# Altium integrated library NSC Switcher.IntLib: 889 symbols (part 19 of 23)
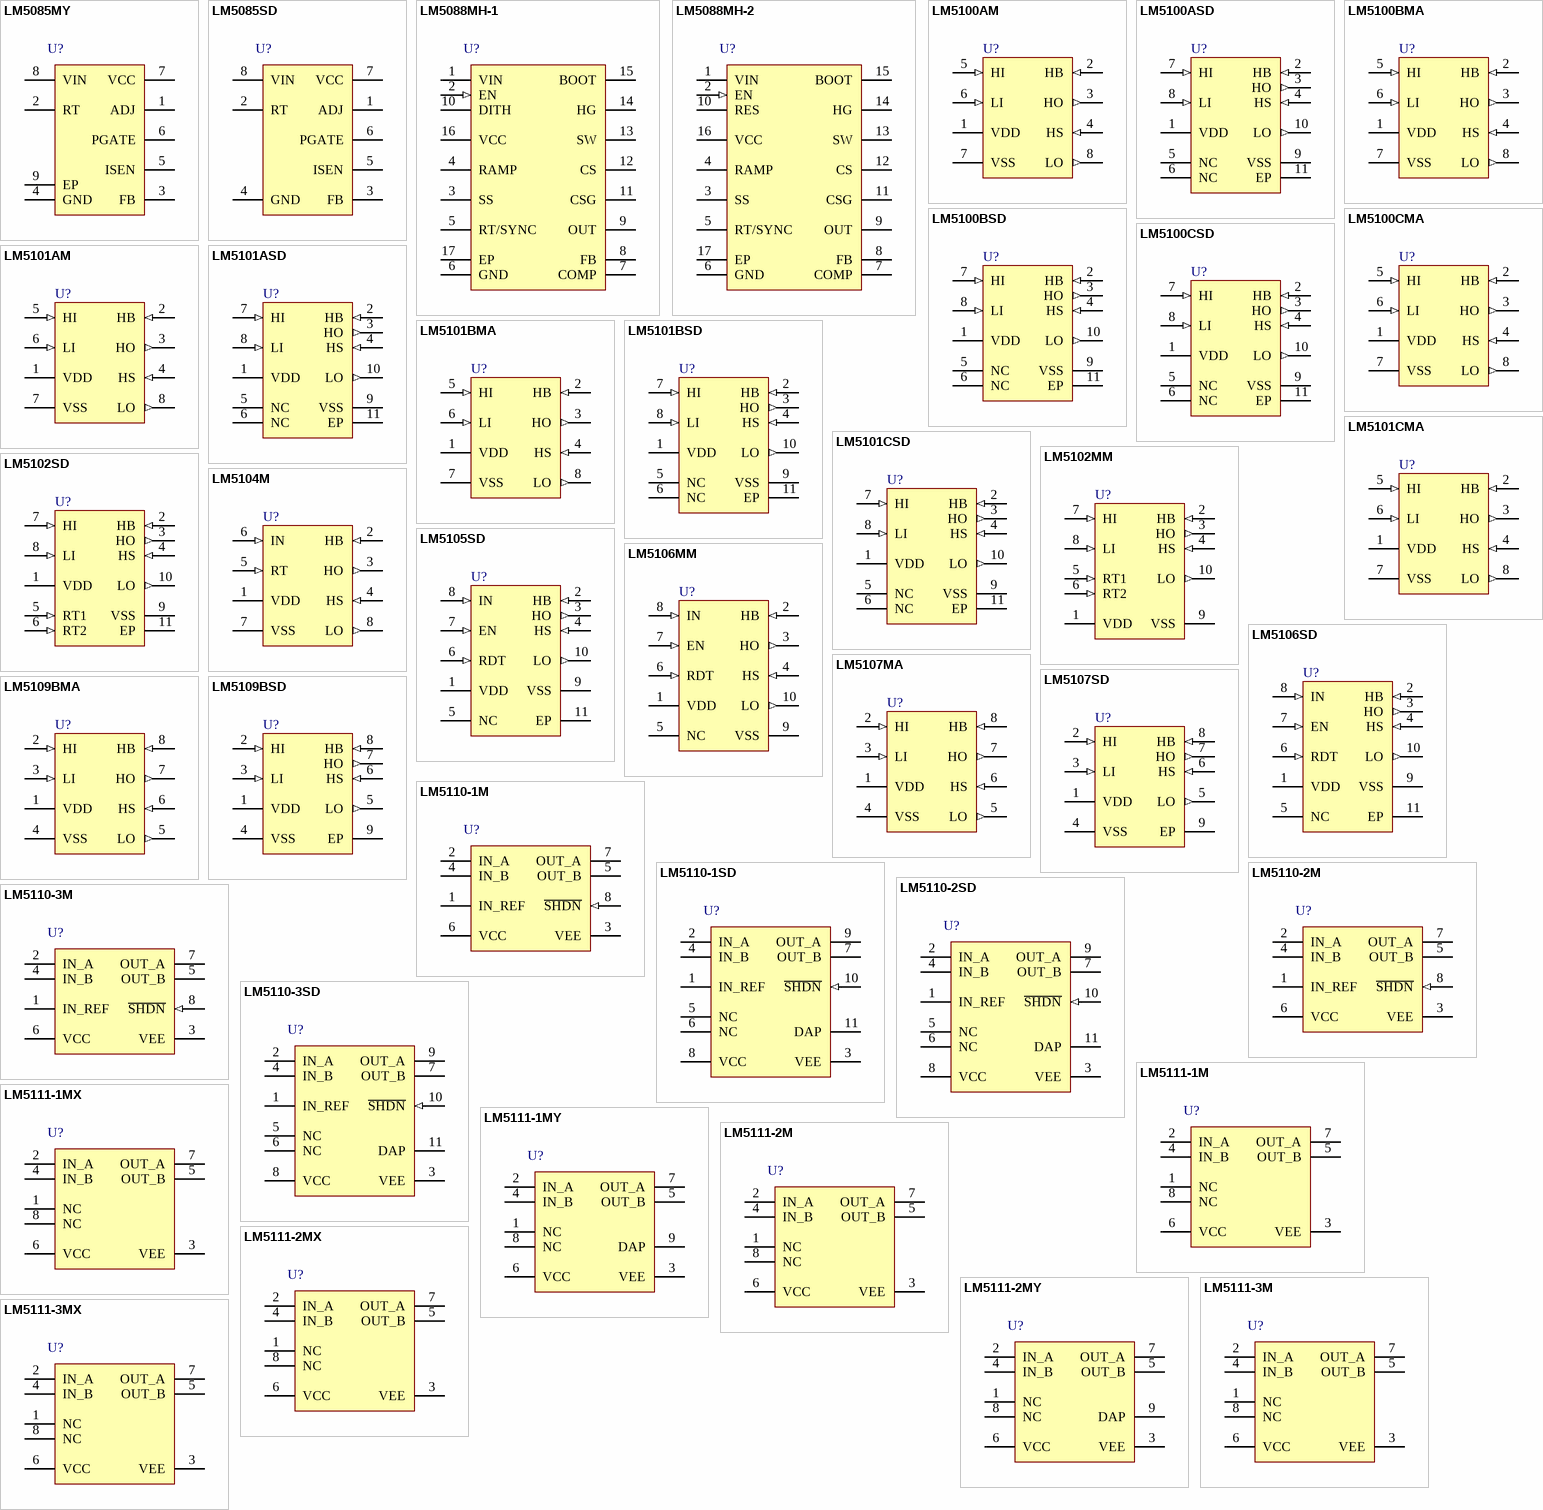
[diagram p45: symbols LM5085MY to LM5111-3MX]

## LM5106SD
designator U?
100V Half Bridge Gate Driver with Programmable Dead-Time; PartNumber: LM5106SD; Manufacturer: National Semiconductor; CompType: Switcher; PackageTopMarking: NS*UZXYTT*L5106SD; Published: 4-Dec-2008; DatasheetVersion: Jun-2006; PackageVersion: revA, May-2003; PackageReference: SDC10A; Publisher: Altium Limited; PackageDescription: LLP, Plastic, Dual, 4 x 4 x 0.8mm Body, 10 Lead, 0.8mm Pitch, No Pullback; RoHS: Y; PinCount: 10; DigiKeyPartNumber: LM5106SDCT-ND; ComponentLink1Description: LM5106 Datasheet; ComponentLink1URL: http://www.national.com/ds/LM/LM5106.pdf; ComponentLink2Description: LM5106 Web Page; ComponentLink2URL: http://www.national.com/pf/LM/LM5106.html; ComponentLink3Description: SDC10A Package Drawing; ComponentLink3URL: http://www.national.com/packaging/folders/sdc10a.html
footprint SDC10A (SON, 10-Leads, Body 4x4 mm, Pitch 0.8mm, NSC Recommended)
pins: 1 VDD (power), 2 HB (in), 3 HO (out), 4 HS (in), 5 NC, 6 RDT (in), 7 EN (in), 8 IN (in), 9 VSS (power), 10 LO (out), 11 EP (power)

## LM5107MA
designator U?
100V / 1.4A Peak Half Bridge Gate Driver; PartNumber: LM5107MA; Manufacturer: National Semiconductor; CompType: Switcher; PackageTopMarking: NSZXTT*L5107*MA; Published: 4-Dec-2008; DatasheetVersion: Mar-2005; PackageVersion: revL, Sep-2006; PackageReference: M08A; Publisher: Altium Limited; PackageDescription: SOIC Narrow, 4.9 x 3.9 x 1.45mm, 8 Lead, 1.27mm Pitch; RoHS: Y; PinCount: 8; DigiKeyPartNumber: LM5107MA-ND; Code_JEDEC: MS-012-AA; Code_IPC: SOIC127P600-8; ComponentLink1Description: LM5107 Datasheet; ComponentLink1URL: http://www.national.com/ds/LM/LM5107.pdf; ComponentLink2Description: LM5107 Web Page; ComponentLink2URL: http://www.national.com/pf/LM/LM5107.html; ComponentLink3Description: M08A Package Drawing; ComponentLink3URL: http://www.national.com/packaging/folders/m08a.html
footprint M08A_N (SOIC, 8-Leads, Body 4.9x3.9mm, Pitch 1.27mm, IPC Medium Density)
footprint M08A_L (SOIC, 8-Leads, Body 4.9x3.9mm, Pitch 1.27mm, IPC High Density)
footprint M08A_M (SOIC, 8-Leads, Body 4.9x3.9mm, Pitch 1.27mm, IPC Low Density)
pins: 1 VDD (power), 2 HI (in), 3 LI (in), 4 VSS (power), 5 LO (out), 6 HS (in), 7 HO (out), 8 HB (in)

## LM5107SD
designator U?
100V / 1.4A Peak Half Bridge Gate Driver; PartNumber: LM5107SD; Manufacturer: National Semiconductor; CompType: Switcher; PackageTopMarking: NS*UZXYTT*L5107SD; Published: 4-Dec-2008; DatasheetVersion: Mar-2005; PackageVersion: revA, Jun-2003; PackageReference: SDC08A; Publisher: Altium Limited; PackageDescription: LLP, Plastic, Dual, 4 x 4 x 0.8mm Body, 8 Lead, 0.8mm Pitch, No Pullback; RoHS: Y; PinCount: 8; DigiKeyPartNumber: LM5107SDCT-ND; ComponentLink1Description: LM5107 Datasheet; ComponentLink1URL: http://www.national.com/ds/LM/LM5107.pdf; ComponentLink2Description: LM5107 Web Page; ComponentLink2URL: http://www.national.com/pf/LM/LM5107.html; ComponentLink3Description: SDC08A Package Drawing; ComponentLink3URL: http://www.national.com/packaging/folders/sdc08a.html
footprint SDC08A (SON, 8-Leads, Body 4x4mm, Pitch 0.8mm, NSC Recommended)
pins: 1 VDD (power), 2 HI (in), 3 LI (in), 4 VSS (power), 5 LO (out), 6 HS (in), 7 HO (out), 8 HB (in), 9 EP (power)

## LM5109BMA
designator U?
High Voltage 1A Peak Half Bridge Gate Driver; PartNumber: LM5109BMA; Manufacturer: National Semiconductor; CompType: Switcher; PackageTopMarking: NSZXTT*L5109*BMA; Published: 4-Dec-2008; DatasheetVersion: Feb-2007; PackageVersion: revL, Sep-2006; PackageReference: M08A; Publisher: Altium Limited; PackageDescription: SOIC Narrow, 4.9 x 3.9 x 1.45mm, 8 Lead, 1.27mm Pitch; RoHS: Y; PinCount: 8; DigiKeyPartNumber: LM5109BMA-ND; Code_JEDEC: MS-012-AA; Code_IPC: SOIC127P600-8; ComponentLink1Description: LM5109B Datasheet; ComponentLink1URL: http://www.national.com/ds/LM/LM5109B.pdf; ComponentLink2Description: LM5109B Web Page; ComponentLink2URL: http://www.national.com/pf/LM/LM5109B.html; ComponentLink3Description: M08A Package Drawing; ComponentLink3URL: http://www.national.com/packaging/folders/m08a.html
footprint M08A_N (SOIC, 8-Leads, Body 4.9x3.9mm, Pitch 1.27mm, IPC Medium Density)
footprint M08A_L (SOIC, 8-Leads, Body 4.9x3.9mm, Pitch 1.27mm, IPC High Density)
footprint M08A_M (SOIC, 8-Leads, Body 4.9x3.9mm, Pitch 1.27mm, IPC Low Density)
pins: 1 VDD (power), 2 HI (in), 3 LI (in), 4 VSS (power), 5 LO (out), 6 HS (in), 7 HO (out), 8 HB (in)

## LM5109BSD
designator U?
High Voltage 1A Peak Half Bridge Gate Driver; PartNumber: LM5109BSD; Manufacturer: National Semiconductor; CompType: Switcher; PackageTopMarking: NS*UZXYTT*5109BSD; Published: 4-Dec-2008; DatasheetVersion: Feb-2007; PackageVersion: revA, Jun-2003; PackageReference: SDC08A; Publisher: Altium Limited; PackageDescription: LLP, Plastic, Dual, 4 x 4 x 0.8mm Body, 8 Lead, 0.8mm Pitch, No Pullback; RoHS: Y; PinCount: 8; DigiKeyPartNumber: LM5109BSDCT-ND; ComponentLink1Description: LM5109B Datasheet; ComponentLink1URL: http://www.national.com/ds/LM/LM5109B.pdf; ComponentLink2Description: LM5109B Web Page; ComponentLink2URL: http://www.national.com/pf/LM/LM5109B.html; ComponentLink3Description: SDC08A Package Drawing; ComponentLink3URL: http://www.national.com/packaging/folders/sdc08a.html
footprint SDC08A (SON, 8-Leads, Body 4x4mm, Pitch 0.8mm, NSC Recommended)
pins: 1 VDD (power), 2 HI (in), 3 LI (in), 4 VSS (power), 5 LO (out), 6 HS (in), 7 HO (out), 8 HB (in), 9 EP (power)

## LM5110-1M
designator U?
Dual 5A Compound Gate Driver with Negative Output Voltage Capability; PartNumber: LM5110-1M; Manufacturer: National Semiconductor; CompType: Switcher; PackageTopMarking: NSZXTT*5110*-1M; PowerWise: N; Published: 4-Dec-2008; DatasheetVersion: Oct-2003; PackageVersion: revL, Sep-2006; PackageReference: M08A; Publisher: Altium Limited; PackageDescription: SOIC Narrow, 4.9 x 3.9 x 1.45mm, 8 Lead, 1.27mm Pitch; RoHS: Y; PinCount: 8; DigiKeyPartNumber: LM5110-1M-ND; Code_JEDEC: MS-012-AA; Code_IPC: SOIC127P600-8; ComponentLink1Description: LM5110 Datasheet; ComponentLink1URL: http://www.national.com/ds/LM/LM5110.pdf; ComponentLink2Description: LM5110 Web Page; ComponentLink2URL: http://www.national.com/pf/LM/LM5110.html; ComponentLink3Description: M08A Package Drawing; ComponentLink3URL: http://www.national.com/packaging/folders/m08a.html
footprint M08A_N (SOIC, 8-Leads, Body 4.9x3.9mm, Pitch 1.27mm, IPC Medium Density)
footprint M08A_L (SOIC, 8-Leads, Body 4.9x3.9mm, Pitch 1.27mm, IPC High Density)
footprint M08A_M (SOIC, 8-Leads, Body 4.9x3.9mm, Pitch 1.27mm, IPC Low Density)
pins: 1 IN_REF (power), 2 IN_A (power), 3 VEE (power), 4 IN_B (power), 5 OUT_B (power), 6 VCC (power), 7 OUT_A (power), 8 ~{SHDN} (in)

## LM5110-1SD
designator U?
Dual 5A Compound Gate Driver with Negative Output Voltage Capability; PartNumber: LM5110-1SD; Manufacturer: National Semiconductor; CompType: Switcher; PackageTopMarking: NS*UZXYTT*5110-1; PowerWise: N; Published: 4-Dec-2008; DatasheetVersion: Oct-2003; PackageVersion: revA, May-2003; PackageReference: SDC10A; Publisher: Altium Limited; PackageDescription: LLP, Plastic, Dual, 4 x 4 x 0.8mm Body, 10 Lead, 0.8mm Pitch, No Pullback; RoHS: O; PinCount: 10; DigiKeyPartNumber: LM5110-1SDCT-ND; ComponentLink1Description: LM5110 Datasheet; ComponentLink1URL: http://www.national.com/ds/LM/LM5110.pdf; ComponentLink2Description: LM5110 Web Page; ComponentLink2URL: http://www.national.com/pf/LM/LM5110.html; ComponentLink3Description: SDC10A Package Drawing; ComponentLink3URL: http://www.national.com/packaging/folders/sdc10a.html
footprint SDC10A (SON, 10-Leads, Body 4x4 mm, Pitch 0.8mm, NSC Recommended)
pins: 1 IN_REF (power), 2 IN_A (power), 3 VEE (power), 4 IN_B (power), 5 NC, 6 NC, 7 OUT_B (power), 8 VCC (power), 9 OUT_A (power), 10 ~{SHDN} (in), 11 DAP (power)

## LM5110-2M
designator U?
Dual 5A Compound Gate Driver with Negative Output Voltage Capability; PartNumber: LM5110-2M; Manufacturer: National Semiconductor; CompType: Switcher; PackageTopMarking: NSZXTT*5110*-2M; PowerWise: N; Published: 4-Dec-2008; DatasheetVersion: Oct-2003; PackageVersion: revL, Sep-2006; PackageReference: M08A; Publisher: Altium Limited; PackageDescription: SOIC Narrow, 4.9 x 3.9 x 1.45mm, 8 Lead, 1.27mm Pitch; RoHS: O; PinCount: 8; DigiKeyPartNumber: LM5110-2M-ND; Code_JEDEC: MS-012-AA; Code_IPC: SOIC127P600-8; ComponentLink1Description: LM5110 Datasheet; ComponentLink1URL: http://www.national.com/ds/LM/LM5110.pdf; ComponentLink2Description: LM5110 Web Page; ComponentLink2URL: http://www.national.com/pf/LM/LM5110.html; ComponentLink3Description: M08A Package Drawing; ComponentLink3URL: http://www.national.com/packaging/folders/m08a.html
footprint M08A_N (SOIC, 8-Leads, Body 4.9x3.9mm, Pitch 1.27mm, IPC Medium Density)
footprint M08A_L (SOIC, 8-Leads, Body 4.9x3.9mm, Pitch 1.27mm, IPC High Density)
footprint M08A_M (SOIC, 8-Leads, Body 4.9x3.9mm, Pitch 1.27mm, IPC Low Density)
pins: 1 IN_REF (power), 2 IN_A (power), 3 VEE (power), 4 IN_B (power), 5 OUT_B (power), 6 VCC (power), 7 OUT_A (power), 8 ~{SHDN} (in)

## LM5110-2SD
designator U?
Dual 5A Compound Gate Driver with Negative Output Voltage Capability; PartNumber: LM5110-2SD; Manufacturer: National Semiconductor; CompType: Switcher; PackageTopMarking: NS*UZXYTT*5110-2; PowerWise: N; Published: 4-Dec-2008; DatasheetVersion: Oct-2003; PackageVersion: revA, May-2003; PackageReference: SDC10A; Publisher: Altium Limited; PackageDescription: LLP, Plastic, Dual, 4 x 4 x 0.8mm Body, 10 Lead, 0.8mm Pitch, No Pullback; RoHS: Y; PinCount: 10; DigiKeyPartNumber: LM5110-2SDCT-ND; ComponentLink1Description: LM5110 Datasheet; ComponentLink1URL: http://www.national.com/ds/LM/LM5110.pdf; ComponentLink2Description: LM5110 Web Page; ComponentLink2URL: http://www.national.com/pf/LM/LM5110.html; ComponentLink3Description: SDC10A Package Drawing; ComponentLink3URL: http://www.national.com/packaging/folders/sdc10a.html
footprint SDC10A (SON, 10-Leads, Body 4x4 mm, Pitch 0.8mm, NSC Recommended)
pins: 1 IN_REF (power), 2 IN_A (power), 3 VEE (power), 4 IN_B (power), 5 NC, 6 NC, 7 OUT_B (power), 8 VCC (power), 9 OUT_A (power), 10 ~{SHDN} (in), 11 DAP (power)

## LM5110-3M
designator U?
Dual 5A Compound Gate Driver with Negative Output Voltage Capability; PartNumber: LM5110-3M; Manufacturer: National Semiconductor; CompType: Switcher; PackageTopMarking: NSZXTT*5110*-3M; PowerWise: N; Published: 4-Dec-2008; DatasheetVersion: Oct-2003; PackageVersion: revL, Sep-2006; PackageReference: M08A; Publisher: Altium Limited; PackageDescription: SOIC Narrow, 4.9 x 3.9 x 1.45mm, 8 Lead, 1.27mm Pitch; RoHS: Y; PinCount: 8; DigiKeyPartNumber: LM5110-3M-ND; Code_JEDEC: MS-012-AA; Code_IPC: SOIC127P600-8; ComponentLink1Description: LM5110 Datasheet; ComponentLink1URL: http://www.national.com/ds/LM/LM5110.pdf; ComponentLink2Description: LM5110 Web Page; ComponentLink2URL: http://www.national.com/pf/LM/LM5110.html; ComponentLink3Description: M08A Package Drawing; ComponentLink3URL: http://www.national.com/packaging/folders/m08a.html
footprint M08A_N (SOIC, 8-Leads, Body 4.9x3.9mm, Pitch 1.27mm, IPC Medium Density)
footprint M08A_L (SOIC, 8-Leads, Body 4.9x3.9mm, Pitch 1.27mm, IPC High Density)
footprint M08A_M (SOIC, 8-Leads, Body 4.9x3.9mm, Pitch 1.27mm, IPC Low Density)
pins: 1 IN_REF (power), 2 IN_A (power), 3 VEE (power), 4 IN_B (power), 5 OUT_B (power), 6 VCC (power), 7 OUT_A (power), 8 ~{SHDN} (in)

## LM5110-3SD
designator U?
Dual 5A Compound Gate Driver with Negative Output Voltage Capability; PartNumber: LM5110-3SD; Manufacturer: National Semiconductor; CompType: Switcher; PackageTopMarking: NS*UZXYTT*5110-3; PowerWise: N; Published: 4-Dec-2008; DatasheetVersion: Oct-2003; PackageVersion: revA, May-2003; PackageReference: SDC10A; Publisher: Altium Limited; PackageDescription: LLP, Plastic, Dual, 4 x 4 x 0.8mm Body, 10 Lead, 0.8mm Pitch, No Pullback; RoHS: Y; PinCount: 10; DigiKeyPartNumber: LM5110-3SDCT-ND; ComponentLink1Description: LM5110 Datasheet; ComponentLink1URL: http://www.national.com/ds/LM/LM5110.pdf; ComponentLink2Description: LM5110 Web Page; ComponentLink2URL: http://www.national.com/pf/LM/LM5110.html; ComponentLink3Description: SDC10A Package Drawing; ComponentLink3URL: http://www.national.com/packaging/folders/sdc10a.html
footprint SDC10A (SON, 10-Leads, Body 4x4 mm, Pitch 0.8mm, NSC Recommended)
pins: 1 IN_REF (power), 2 IN_A (power), 3 VEE (power), 4 IN_B (power), 5 NC, 6 NC, 7 OUT_B (power), 8 VCC (power), 9 OUT_A (power), 10 ~{SHDN} (in), 11 DAP (power)

## LM5111-1M
designator U?
Dual 5A Compound Gate Driver; PartNumber: LM5111-1M; Manufacturer: National Semiconductor; CompType: Switcher; PackageTopMarking: NSXYTT*5111*-1M; PowerWise: N; Published: 4-Dec-2008; DatasheetVersion: Nov-2007; PackageVersion: revL, Sep-2006; PackageReference: M08A; Publisher: Altium Limited; PackageDescription: SOIC Narrow, 4.9 x 3.9 x 1.45mm, 8 Lead, 1.27mm Pitch; RoHS: Y; PinCount: 8; DigiKeyPartNumber: LM5111-1M-ND; Code_JEDEC: MS-012-AA; Code_IPC: SOIC127P600-8; ComponentLink1Description: LM5111 Datasheet; ComponentLink1URL: http://www.national.com/ds/LM/LM5111.pdf; ComponentLink2Description: LM5111 Web Page; ComponentLink2URL: http://www.national.com/pf/LM/LM5111.html; ComponentLink3Description: M08A Package Drawing; ComponentLink3URL: http://www.national.com/packaging/folders/m08a.html
footprint M08A_N (SOIC, 8-Leads, Body 4.9x3.9mm, Pitch 1.27mm, IPC Medium Density)
footprint M08A_L (SOIC, 8-Leads, Body 4.9x3.9mm, Pitch 1.27mm, IPC High Density)
footprint M08A_M (SOIC, 8-Leads, Body 4.9x3.9mm, Pitch 1.27mm, IPC Low Density)
pins: 1 NC, 2 IN_A (power), 3 VEE (power), 4 IN_B (power), 5 OUT_B (power), 6 VCC (power), 7 OUT_A (power), 8 NC

## LM5111-1MX
designator U?
Dual 5A Compound Gate Driver; PartNumber: LM5111-1MX; Manufacturer: National Semiconductor; CompType: Switcher; PackageTopMarking: NSZXTT*5111*-1M; PowerWise: N; Published: 4-Dec-2008; DatasheetVersion: Nov-2007; PackageVersion: revL, Sep-2006; PackageReference: M08A; Publisher: Altium Limited; PackageDescription: SOIC Narrow, 4.9 x 3.9 x 1.45mm, 8 Lead, 1.27mm Pitch; RoHS: O; PinCount: 8; DigiKeyPartNumber: LM5111-1MX-ND; Code_JEDEC: MS-012-AA; Code_IPC: SOIC127P600-8; ComponentLink1Description: LM5111 Datasheet; ComponentLink1URL: http://www.national.com/ds/LM/LM5111.pdf; ComponentLink2Description: LM5111 Web Page; ComponentLink2URL: http://www.national.com/pf/LM/LM5111.html; ComponentLink3Description: M08A Package Drawing; ComponentLink3URL: http://www.national.com/packaging/folders/m08a.html
footprint M08A_N (SOIC, 8-Leads, Body 4.9x3.9mm, Pitch 1.27mm, IPC Medium Density)
footprint M08A_L (SOIC, 8-Leads, Body 4.9x3.9mm, Pitch 1.27mm, IPC High Density)
footprint M08A_M (SOIC, 8-Leads, Body 4.9x3.9mm, Pitch 1.27mm, IPC Low Density)
pins: 1 NC, 2 IN_A (power), 3 VEE (power), 4 IN_B (power), 5 OUT_B (power), 6 VCC (power), 7 OUT_A (power), 8 NC

## LM5111-1MY
designator U?
Dual 5A Compound Gate Driver; PartNumber: LM5111-1MY; Manufacturer: National Semiconductor; CompType: Switcher; PackageTopMarking: ZXTT*SJKB; PowerWise: N; Published: 4-Dec-2008; DatasheetVersion: Nov-2007; PackageVersion: revA, Nov-2003; PackageReference: MUY08A; Publisher: Altium Limited; PackageDescription: Molded Mini-SO, Exposed Pad, .118 x .118 x .034in Body, 8 Lead, .0256in Pitch; RoHS: O; PinCount: 8; DigiKeyPartNumber: LM5111-1MYCT-ND; Code_JEDEC: MO-187-AA; ComponentLink1Description: LM5111 Datasheet; ComponentLink1URL: http://www.national.com/ds/LM/LM5111.pdf; ComponentLink2Description: LM5111 Web Page; ComponentLink2URL: http://www.national.com/pf/LM/LM5111.html; ComponentLink3Description: MUY08A Package Drawing; ComponentLink3URL: http://www.national.com/packaging/folders/muy08a.html
footprint MUY08A_N (TSOP, 8-Leads, Body 3x3mm, Pitch 0.65mm, Exposed Pad, IPC Medium Density)
footprint MUY08A_L (TSOP, 8-Leads, Body 3x3mm, Pitch 0.65mm, Exposed Pad, IPC High Density)
footprint MUY08A_M (TSOP, 8-Leads, Body 3x3mm, Pitch 0.65mm, Exposed Pad, IPC Low Density)
pins: 1 NC, 2 IN_A (power), 3 VEE (power), 4 IN_B (power), 5 OUT_B (power), 6 VCC (power), 7 OUT_A (power), 8 NC, 9 DAP (power)

## LM5111-2M
designator U?
Dual 5A Compound Gate Driver; PartNumber: LM5111-2M; Manufacturer: National Semiconductor; CompType: Switcher; PackageTopMarking: NSXYTT*5111*-2M; PowerWise: N; Published: 4-Dec-2008; DatasheetVersion: Nov-2007; PackageVersion: revL, Sep-2006; PackageReference: M08A; Publisher: Altium Limited; PackageDescription: SOIC Narrow, 4.9 x 3.9 x 1.45mm, 8 Lead, 1.27mm Pitch; RoHS: O; PinCount: 8; DigiKeyPartNumber: LM5111-2M-ND; Code_JEDEC: MS-012-AA; Code_IPC: SOIC127P600-8; ComponentLink1Description: LM5111 Datasheet; ComponentLink1URL: http://www.national.com/ds/LM/LM5111.pdf; ComponentLink2Description: LM5111 Web Page; ComponentLink2URL: http://www.national.com/pf/LM/LM5111.html; ComponentLink3Description: M08A Package Drawing; ComponentLink3URL: http://www.national.com/packaging/folders/m08a.html
footprint M08A_N (SOIC, 8-Leads, Body 4.9x3.9mm, Pitch 1.27mm, IPC Medium Density)
footprint M08A_L (SOIC, 8-Leads, Body 4.9x3.9mm, Pitch 1.27mm, IPC High Density)
footprint M08A_M (SOIC, 8-Leads, Body 4.9x3.9mm, Pitch 1.27mm, IPC Low Density)
pins: 1 NC, 2 IN_A (power), 3 VEE (power), 4 IN_B (power), 5 OUT_B (power), 6 VCC (power), 7 OUT_A (power), 8 NC

## LM5111-2MX
designator U?
Dual 5A Compound Gate Driver; PartNumber: LM5111-2MX; Manufacturer: National Semiconductor; CompType: Switcher; PackageTopMarking: NSZXTT*5111*-2M; PowerWise: N; Published: 4-Dec-2008; DatasheetVersion: Nov-2007; PackageVersion: revL, Sep-2006; PackageReference: M08A; Publisher: Altium Limited; PackageDescription: SOIC Narrow, 4.9 x 3.9 x 1.45mm, 8 Lead, 1.27mm Pitch; RoHS: O; PinCount: 8; DigiKeyPartNumber: LM5111-2MX-ND; Code_JEDEC: MS-012-AA; Code_IPC: SOIC127P600-8; ComponentLink1Description: LM5111 Datasheet; ComponentLink1URL: http://www.national.com/ds/LM/LM5111.pdf; ComponentLink2Description: LM5111 Web Page; ComponentLink2URL: http://www.national.com/pf/LM/LM5111.html; ComponentLink3Description: M08A Package Drawing; ComponentLink3URL: http://www.national.com/packaging/folders/m08a.html
footprint M08A_N (SOIC, 8-Leads, Body 4.9x3.9mm, Pitch 1.27mm, IPC Medium Density)
footprint M08A_L (SOIC, 8-Leads, Body 4.9x3.9mm, Pitch 1.27mm, IPC High Density)
footprint M08A_M (SOIC, 8-Leads, Body 4.9x3.9mm, Pitch 1.27mm, IPC Low Density)
pins: 1 NC, 2 IN_A (power), 3 VEE (power), 4 IN_B (power), 5 OUT_B (power), 6 VCC (power), 7 OUT_A (power), 8 NC

## LM5111-2MY
designator U?
Dual 5A Compound Gate Driver; PartNumber: LM5111-2MY; Manufacturer: National Semiconductor; CompType: Switcher; PackageTopMarking: ZXTT*SJLB; PowerWise: N; Published: 4-Dec-2008; DatasheetVersion: Nov-2007; PackageVersion: revA, Nov-2003; PackageReference: MUY08A; Publisher: Altium Limited; PackageDescription: Molded Mini-SO, Exposed Pad, .118 x .118 x .034in Body, 8 Lead, .0256in Pitch; RoHS: Y; PinCount: 8; DigiKeyPartNumber: LM5111-2MYCT-ND; Code_JEDEC: MO-187-AA; ComponentLink1Description: LM5111 Datasheet; ComponentLink1URL: http://www.national.com/ds/LM/LM5111.pdf; ComponentLink2Description: LM5111 Web Page; ComponentLink2URL: http://www.national.com/pf/LM/LM5111.html; ComponentLink3Description: MUY08A Package Drawing; ComponentLink3URL: http://www.national.com/packaging/folders/muy08a.html
footprint MUY08A_N (TSOP, 8-Leads, Body 3x3mm, Pitch 0.65mm, Exposed Pad, IPC Medium Density)
footprint MUY08A_L (TSOP, 8-Leads, Body 3x3mm, Pitch 0.65mm, Exposed Pad, IPC High Density)
footprint MUY08A_M (TSOP, 8-Leads, Body 3x3mm, Pitch 0.65mm, Exposed Pad, IPC Low Density)
pins: 1 NC, 2 IN_A (power), 3 VEE (power), 4 IN_B (power), 5 OUT_B (power), 6 VCC (power), 7 OUT_A (power), 8 NC, 9 DAP (power)

## LM5111-3M
designator U?
Dual 5A Compound Gate Driver; PartNumber: LM5111-3M; Manufacturer: National Semiconductor; CompType: Switcher; PackageTopMarking: NSXYTT*5111*-3M; PowerWise: N; Published: 4-Dec-2008; DatasheetVersion: Nov-2007; PackageVersion: revL, Sep-2006; PackageReference: M08A; Publisher: Altium Limited; PackageDescription: SOIC Narrow, 4.9 x 3.9 x 1.45mm, 8 Lead, 1.27mm Pitch; RoHS: Y; PinCount: 8; DigiKeyPartNumber: LM5111-3M-ND; Code_JEDEC: MS-012-AA; Code_IPC: SOIC127P600-8; ComponentLink1Description: LM5111 Datasheet; ComponentLink1URL: http://www.national.com/ds/LM/LM5111.pdf; ComponentLink2Description: LM5111 Web Page; ComponentLink2URL: http://www.national.com/pf/LM/LM5111.html; ComponentLink3Description: M08A Package Drawing; ComponentLink3URL: http://www.national.com/packaging/folders/m08a.html
footprint M08A_N (SOIC, 8-Leads, Body 4.9x3.9mm, Pitch 1.27mm, IPC Medium Density)
footprint M08A_L (SOIC, 8-Leads, Body 4.9x3.9mm, Pitch 1.27mm, IPC High Density)
footprint M08A_M (SOIC, 8-Leads, Body 4.9x3.9mm, Pitch 1.27mm, IPC Low Density)
pins: 1 NC, 2 IN_A (power), 3 VEE (power), 4 IN_B (power), 5 OUT_B (power), 6 VCC (power), 7 OUT_A (power), 8 NC

## LM5111-3MX
designator U?
Dual 5A Compound Gate Driver; PartNumber: LM5111-3MX; Manufacturer: National Semiconductor; CompType: Switcher; PackageTopMarking: NSZXTT*5111*-3M; PowerWise: N; Published: 4-Dec-2008; DatasheetVersion: Nov-2007; PackageVersion: revL, Sep-2006; PackageReference: M08A; Publisher: Altium Limited; PackageDescription: SOIC Narrow, 4.9 x 3.9 x 1.45mm, 8 Lead, 1.27mm Pitch; RoHS: O; PinCount: 8; DigiKeyPartNumber: LM5111-3MX-ND; Code_JEDEC: MS-012-AA; Code_IPC: SOIC127P600-8; ComponentLink1Description: LM5111 Datasheet; ComponentLink1URL: http://www.national.com/ds/LM/LM5111.pdf; ComponentLink2Description: LM5111 Web Page; ComponentLink2URL: http://www.national.com/pf/LM/LM5111.html; ComponentLink3Description: M08A Package Drawing; ComponentLink3URL: http://www.national.com/packaging/folders/m08a.html
footprint M08A_N (SOIC, 8-Leads, Body 4.9x3.9mm, Pitch 1.27mm, IPC Medium Density)
footprint M08A_L (SOIC, 8-Leads, Body 4.9x3.9mm, Pitch 1.27mm, IPC High Density)
footprint M08A_M (SOIC, 8-Leads, Body 4.9x3.9mm, Pitch 1.27mm, IPC Low Density)
pins: 1 NC, 2 IN_A (power), 3 VEE (power), 4 IN_B (power), 5 OUT_B (power), 6 VCC (power), 7 OUT_A (power), 8 NC

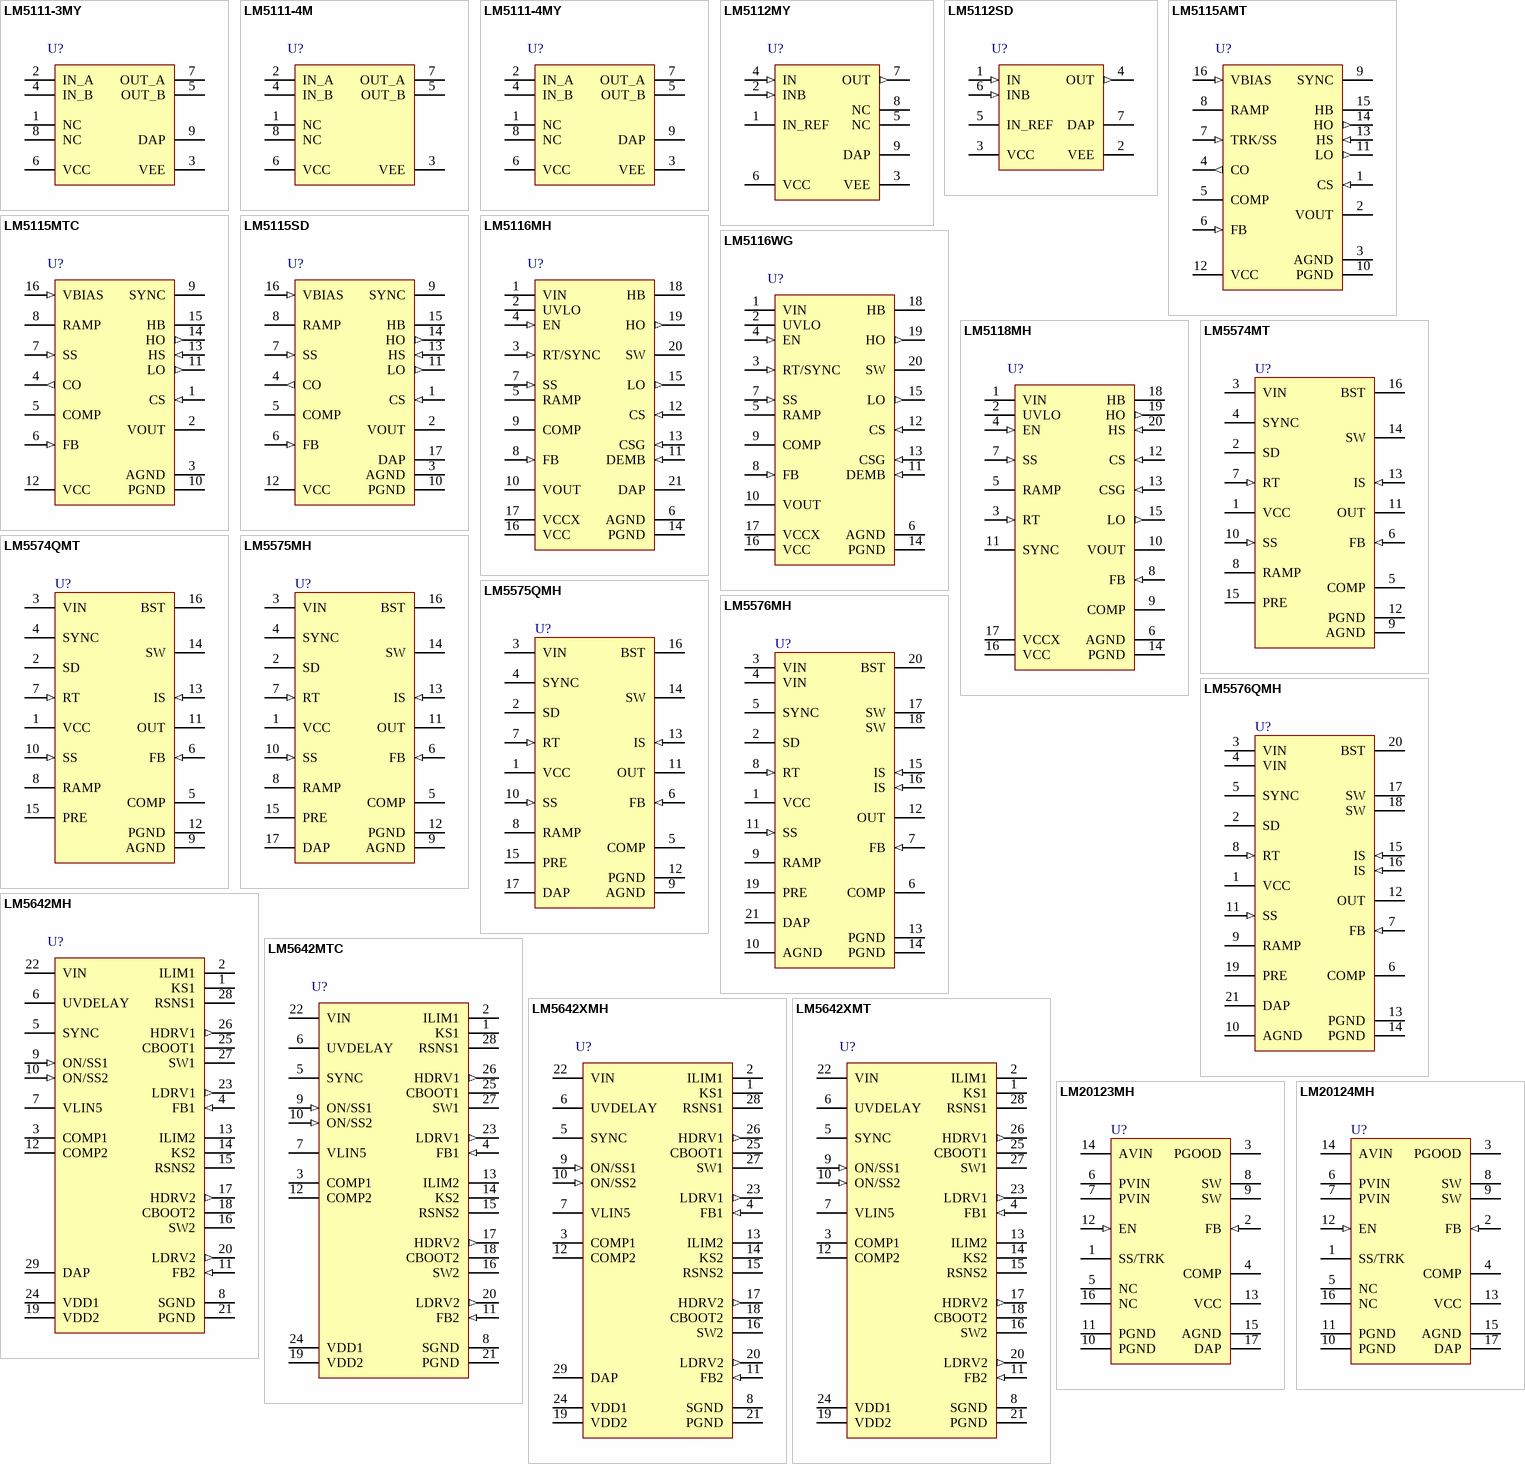
[diagram p22: symbols LM5111-3MY to LM20124MH]

## LM5111-3MY
designator U?
Dual 5A Compound Gate Driver; PartNumber: LM5111-3MY; Manufacturer: National Semiconductor; CompType: Switcher; PackageTopMarking: ZXTT*SJNB; PowerWise: N; Published: 4-Dec-2008; DatasheetVersion: Nov-2007; PackageVersion: revA, Nov-2003; PackageReference: MUY08A; Publisher: Altium Limited; PackageDescription: Molded Mini-SO, Exposed Pad, .118 x .118 x .034in Body, 8 Lead, .0256in Pitch; RoHS: Y; PinCount: 8; DigiKeyPartNumber: LM5111-3MYCT-ND; Code_JEDEC: MO-187-AA; ComponentLink1Description: LM5111 Datasheet; ComponentLink1URL: http://www.national.com/ds/LM/LM5111.pdf; ComponentLink2Description: LM5111 Web Page; ComponentLink2URL: http://www.national.com/pf/LM/LM5111.html; ComponentLink3Description: MUY08A Package Drawing; ComponentLink3URL: http://www.national.com/packaging/folders/muy08a.html
footprint MUY08A_N (TSOP, 8-Leads, Body 3x3mm, Pitch 0.65mm, Exposed Pad, IPC Medium Density)
footprint MUY08A_L (TSOP, 8-Leads, Body 3x3mm, Pitch 0.65mm, Exposed Pad, IPC High Density)
footprint MUY08A_M (TSOP, 8-Leads, Body 3x3mm, Pitch 0.65mm, Exposed Pad, IPC Low Density)
pins: 1 NC, 2 IN_A (power), 3 VEE (power), 4 IN_B (power), 5 OUT_B (power), 6 VCC (power), 7 OUT_A (power), 8 NC, 9 DAP (power)

## LM5111-4M
designator U?
Dual 5A Compound Gate Driver; PartNumber: LM5111-4M; Manufacturer: National Semiconductor; CompType: Switcher; PackageTopMarking: NSZXTT*5111*-4M; PowerWise: N; Published: 4-Dec-2008; DatasheetVersion: Nov-2007; PackageVersion: revL, Sep-2006; PackageReference: M08A; Publisher: Altium Limited; PackageDescription: SOIC Narrow, 4.9 x 3.9 x 1.45mm, 8 Lead, 1.27mm Pitch; RoHS: Y; PinCount: 8; DigiKeyPartNumber: LM5111-4M-ND; Code_JEDEC: MS-012-AA; Code_IPC: SOIC127P600-8; ComponentLink1Description: LM5111 Datasheet; ComponentLink1URL: http://www.national.com/ds/LM/LM5111.pdf; ComponentLink2Description: LM5111 Web Page; ComponentLink2URL: http://www.national.com/pf/LM/LM5111.html; ComponentLink3Description: M08A Package Drawing; ComponentLink3URL: http://www.national.com/packaging/folders/m08a.html
footprint M08A_N (SOIC, 8-Leads, Body 4.9x3.9mm, Pitch 1.27mm, IPC Medium Density)
footprint M08A_L (SOIC, 8-Leads, Body 4.9x3.9mm, Pitch 1.27mm, IPC High Density)
footprint M08A_M (SOIC, 8-Leads, Body 4.9x3.9mm, Pitch 1.27mm, IPC Low Density)
pins: 1 NC, 2 IN_A (power), 3 VEE (power), 4 IN_B (power), 5 OUT_B (power), 6 VCC (power), 7 OUT_A (power), 8 NC

## LM5111-4MY
designator U?
Dual 5A Compound Gate Driver; PartNumber: LM5111-4MY; Manufacturer: National Semiconductor; CompType: Switcher; PackageTopMarking: ZXTT*SSYB; PowerWise: N; Published: 4-Dec-2008; DatasheetVersion: Nov-2007; PackageVersion: revA, Nov-2003; PackageReference: MUY08A; Publisher: Altium Limited; PackageDescription: Molded Mini-SO, Exposed Pad, .118 x .118 x .034in Body, 8 Lead, .0256in Pitch; RoHS: Y; PinCount: 8; DigiKeyPartNumber: LM5111-4MYCT-ND; Code_JEDEC: MO-187-AA; ComponentLink1Description: LM5111 Datasheet; ComponentLink1URL: http://www.national.com/ds/LM/LM5111.pdf; ComponentLink2Description: LM5111 Web Page; ComponentLink2URL: http://www.national.com/pf/LM/LM5111.html; ComponentLink3Description: MUY08A Package Drawing; ComponentLink3URL: http://www.national.com/packaging/folders/muy08a.html
footprint MUY08A_N (TSOP, 8-Leads, Body 3x3mm, Pitch 0.65mm, Exposed Pad, IPC Medium Density)
footprint MUY08A_L (TSOP, 8-Leads, Body 3x3mm, Pitch 0.65mm, Exposed Pad, IPC High Density)
footprint MUY08A_M (TSOP, 8-Leads, Body 3x3mm, Pitch 0.65mm, Exposed Pad, IPC Low Density)
pins: 1 NC, 2 IN_A (power), 3 VEE (power), 4 IN_B (power), 5 OUT_B (power), 6 VCC (power), 7 OUT_A (power), 8 NC, 9 DAP (power)

## LM5112MY
designator U?
Tiny 7A MOSFET Gate Driver; PartNumber: LM5112MY; Manufacturer: National Semiconductor; CompType: Switcher; PackageTopMarking: ZXTT*SJJB; PowerWise: N; Published: 4-Dec-2008; DatasheetVersion: Apr-2006; PackageVersion: revA, Nov-2003; PackageReference: MUY08A; Publisher: Altium Limited; PackageDescription: Molded Mini-SO, Exposed Pad, .118 x .118 x .034in Body, 8 Lead, .0256in Pitch; RoHS: Y; PinCount: 8; DigiKeyPartNumber: LM5112MYCT-ND; Code_JEDEC: MO-187-AA; ComponentLink1Description: LM5112 Datasheet; ComponentLink1URL: http://www.national.com/ds/LM/LM5112.pdf; ComponentLink2Description: LM5112 Web Page; ComponentLink2URL: http://www.national.com/pf/LM/LM5112.html; ComponentLink3Description: MUY08A Package Drawing; ComponentLink3URL: http://www.national.com/packaging/folders/muy08a.html
footprint MUY08A_N (TSOP, 8-Leads, Body 3x3mm, Pitch 0.65mm, Exposed Pad, IPC Medium Density)
footprint MUY08A_L (TSOP, 8-Leads, Body 3x3mm, Pitch 0.65mm, Exposed Pad, IPC High Density)
footprint MUY08A_M (TSOP, 8-Leads, Body 3x3mm, Pitch 0.65mm, Exposed Pad, IPC Low Density)
pins: 1 IN_REF (power), 2 INB (in), 3 VEE (power), 4 IN (in), 5 NC, 6 VCC (power), 7 OUT (out), 8 NC, 9 DAP (power)

## LM5112SD
designator U?
Tiny 7A MOSFET Gate Driver; PartNumber: LM5112SD; Manufacturer: National Semiconductor; CompType: Switcher; PackageTopMarking: ZXYTT*L132B; PowerWise: N; Published: 4-Dec-2008; DatasheetVersion: Apr-2006; PackageVersion: revA, Jul-2003; PackageReference: SDE06A; Publisher: Altium Limited; PackageDescription: LLP, Plastic, Dual, 3 x 3 x 0.8mm Body, 6 Lead, 0.95mm Pitch, No Pullback; RoHS: Y; PinCount: 6; DigiKeyPartNumber: LM5112SDCT-ND; ComponentLink1Description: LM5112 Datasheet; ComponentLink1URL: http://www.national.com/ds/LM/LM5112.pdf; ComponentLink2Description: LM5112 Web Page; ComponentLink2URL: http://www.national.com/pf/LM/LM5112.html; ComponentLink3Description: SDE06A Package Drawing; ComponentLink3URL: http://www.national.com/packaging/folders/sde06a.html
footprint SDE06A_full (SON, 6-Leads, Body 3x3 mm, Pitch 0.95mm, Full Paste, NSC Recommended)
footprint SDE06A_quad (SON, 6-Leads, Body 3x3 mm, Pitch 0.95mm, Quad Paste, NSC Recommended)
pins: 1 IN (in), 2 VEE (power), 3 VCC (power), 4 OUT (out), 5 IN_REF (power), 6 INB (in), 7 DAP (power)

## LM5115AMT
designator U?
Secondary Side Post Regulator / Synchronous Buck Controller; PartNumber: LM5115AMT; Manufacturer: National Semiconductor; CompType: Switcher; PackageTopMarking: NSUZXYTT*LM5115*AMT; PowerWise: N; Published: 4-Dec-2008; DatasheetVersion: Jan-2007; PackageVersion: revD, Jun-2003; PackageReference: MTC16; Publisher: Altium Limited; PackageDescription: Molded TSSOP, Jedec, 5 x 4.4 x 0.9mm Body, 16 Lead, 0.65mm Pitch; RoHS: Y; PinCount: 16; DigiKeyPartNumber: LM5115AMT-ND; Code_JEDEC: MO-153-AB; ComponentLink1Description: LM5115A Datasheet; ComponentLink1URL: http://www.national.com/ds/LM/LM5115A.pdf; ComponentLink2Description: LM5115A Web Page; ComponentLink2URL: http://www.national.com/pf/LM/LM5115A.html; ComponentLink3Description: MTC16 Package Drawing; ComponentLink3URL: http://www.national.com/packaging/folders/mtc16.html
footprint MTC16_N (TSOP, 16-Leads, Body 5x4.4mm, Pitch 0.65mm, IPC Medium Density)
footprint MTC16_L (TSOP, 16-Leads, Body 5x4.4mm, Pitch 0.65mm, IPC High Density)
footprint MTC16_M (TSOP, 16-Leads, Body 5x4.4mm, Pitch 0.65mm, IPC Low Density)
pins: 1 CS (in), 2 VOUT, 3 AGND (power), 4 CO (out), 5 COMP, 6 FB (in), 7 TRK/SS (in), 8 RAMP, 9 SYNC, 10 PGND (power), 11 LO (out), 12 VCC (power), 13 HS (in), 14 HO (out), 15 HB, 16 VBIAS (in)

## LM5115MTC
designator U?
Secondary Side Post Regulator / Synchronous Buck Controller; PartNumber: LM5115MTC; Manufacturer: National Semiconductor; CompType: Switcher; PackageTopMarking: NSUZXYTT*LM5115*MTC; PowerWise: N; Published: 4-Dec-2008; DatasheetVersion: Jul-2006; PackageVersion: revD, Jun-2003; PackageReference: MTC16; Publisher: Altium Limited; PackageDescription: Molded TSSOP, Jedec, 5 x 4.4 x 0.9mm Body, 16 Lead, 0.65mm Pitch; RoHS: O; PinCount: 16; DigiKeyPartNumber: LM5115MTC-ND; Code_JEDEC: MO-153-AB; ComponentLink1Description: LM5115 Datasheet; ComponentLink1URL: http://www.national.com/ds/LM/LM5115.pdf; ComponentLink2Description: LM5115 Web Page; ComponentLink2URL: http://www.national.com/pf/LM/LM5115.html; ComponentLink3Description: MTC16 Package Drawing; ComponentLink3URL: http://www.national.com/packaging/folders/mtc16.html
footprint MTC16_N (TSOP, 16-Leads, Body 5x4.4mm, Pitch 0.65mm, IPC Medium Density)
footprint MTC16_L (TSOP, 16-Leads, Body 5x4.4mm, Pitch 0.65mm, IPC High Density)
footprint MTC16_M (TSOP, 16-Leads, Body 5x4.4mm, Pitch 0.65mm, IPC Low Density)
pins: 1 CS (in), 2 VOUT, 3 AGND (power), 4 CO (out), 5 COMP, 6 FB (in), 7 SS (in), 8 RAMP, 9 SYNC, 10 PGND (power), 11 LO (out), 12 VCC (power), 13 HS (in), 14 HO (out), 15 HB, 16 VBIAS (in)

## LM5115SD
designator U?
Secondary Side Post Regulator / Synchronous Buck Controller; PartNumber: LM5115SD; Manufacturer: National Semiconductor; CompType: Switcher; PackageTopMarking: NS*UZXYTT*5115SD; PowerWise: N; Published: 4-Dec-2008; DatasheetVersion: Jul-2006; PackageVersion: revA, May-2003; PackageReference: SDA16A; Publisher: Altium Limited; PackageDescription: LLP, Plastic, Dual, 5 x 5 x 0.8mm Body,16 Lead, 0.5mm Pitch, No Pullback; RoHS: Y; PinCount: 16; DigiKeyPartNumber: LM5115SDCT-ND; ComponentLink1Description: LM5115 Datasheet; ComponentLink1URL: http://www.national.com/ds/LM/LM5115.pdf; ComponentLink2Description: LM5115 Web Page; ComponentLink2URL: http://www.national.com/pf/LM/LM5115.html; ComponentLink3Description: SDA16A Package Drawing; ComponentLink3URL: http://www.national.com/packaging/folders/sda16a.html
footprint SDA16A (SON, 16-Leads, Body 5x5mm, Pitch 0.5mm, NSC Recommended)
pins: 1 CS (in), 2 VOUT, 3 AGND (power), 4 CO (out), 5 COMP, 6 FB (in), 7 SS (in), 8 RAMP, 9 SYNC, 10 PGND (power), 11 LO (out), 12 VCC (power), 13 HS (in), 14 HO (out), 15 HB, 16 VBIAS (in), 17 DAP (power)

## LM5116MH
designator U?
Wide Range Synchronous Buck Controller; PartNumber: LM5116MH; Manufacturer: National Semiconductor; CompType: Switcher; PackageTopMarking: NSUZXYTT*LM5116*MH; PowerWise: Y; Published: 4-Dec-2008; DatasheetVersion: Nov-2008; PackageVersion: revC, Jul-2006; PackageReference: MXA20A; Publisher: Altium Limited; PackageDescription: Molded TSSOP, Jedec, 6.5 x 4.4 x 0.9mm Body, 20 Lead, 0.65mm Pitch, Exposed Pad; RoHS: O; PinCount: 20; DigiKeyPartNumber: LM5116MH-ND; Code_JEDEC: MO-153-ACT; ComponentLink1Description: LM5116 Datasheet; ComponentLink1URL: http://www.national.com/ds/LM/LM5116.pdf; ComponentLink2Description: LM5116 Web Page; ComponentLink2URL: http://www.national.com/pf/LM/LM5116.html; ComponentLink3Description: MXA20A Package Drawing; ComponentLink3URL: http://www.national.com/packaging/folders/mxa20a.html
footprint MXA20A_N (TSOP, 20-Leads, Body 6.5x4.4mm, Pitch 0.65mm, Exposed Pad, IPC Medium Density)
footprint MXA20A_L (TSOP, 20-Leads, Body 6.5x4.4mm, Pitch 0.65mm, Exposed Pad, IPC High Density)
footprint MXA20A_M (TSOP, 20-Leads, Body 6.5x4.4mm, Pitch 0.65mm, Exposed Pad, IPC Low Density)
pins: 1 VIN (power), 2 UVLO, 3 RT/SYNC (in), 4 EN (in), 5 RAMP, 6 AGND (power), 7 SS (in), 8 FB (in), 9 COMP, 10 VOUT, 11 DEMB (in), 12 CS (in), 13 CSG (in), 14 PGND (power), 15 LO (out), 16 VCC (power), 17 VCCX (power), 18 HB, 19 HO (out), 20 SW (power), 21 DAP (power)

## LM5116WG
designator U?
Wide Range Synchronous Buck Controller; PartNumber: LM5116WG; Manufacturer: National Semiconductor; CompType: Switcher; PackageTopMarking: NSUZXYTT*LM5116WG; PowerWise: Y; Published: 4-Dec-2008; DatasheetVersion: Oct-2008; PackageVersion: revD, Aug-2008; PackageReference: WG20A; Publisher: Altium Limited; PackageDescription: Cerpack, .540 x .266 x .075in, 20 Lead, .050in Pitch, Gull Wing; RoHS: Y; PinCount: 20; ComponentLink1Description: LM5116WG Datasheet; ComponentLink1URL: http://www.national.com/ds/LM/LM5116WG.pdf; ComponentLink2Description: LM5116WG Web Page; ComponentLink2URL: http://www.national.com/pf/LM/LM5116WG.html; ComponentLink3Description: WG20A Package Drawing; ComponentLink3URL: http://www.national.com/packaging/folders/wg20a.html
footprint WG20A_N (CERPACK, 20-Leads, Body 26.6x9.4mm, Pitch 1.27mm, IPC Medium Density)
footprint WG20A_L (CERPACK, 20-Leads, Body 26.6x9.4mm, Pitch 1.27mm, IPC High Density)
footprint WG20A_M (CERPACK, 20-Leads, Body 26.6x9.4mm, Pitch 1.27mm, IPC Low Density)
pins: 1 VIN (power), 2 UVLO, 3 RT/SYNC (in), 4 EN (in), 5 RAMP, 6 AGND (power), 7 SS (in), 8 FB (in), 9 COMP, 10 VOUT, 11 DEMB (in), 12 CS (in), 13 CSG (in), 14 PGND (power), 15 LO (out), 16 VCC (power), 17 VCCX (power), 18 HB, 19 HO (out), 20 SW (power)

## LM5118MH
designator U?
Wide Voltage Range Buck-Boost Controller; PartNumber: LM5118MH; Manufacturer: National Semiconductor; CompType: Switcher; PackageTopMarking: NSUZXYTT*LM5118*MH; PowerWise: Y; Published: 4-Dec-2008; DatasheetVersion: May-2008; PackageVersion: revC, Jul-2006; PackageReference: MXA20A; Publisher: Altium Limited; PackageDescription: Molded TSSOP, Jedec, 6.5 x 4.4 x 0.9mm Body, 20 Lead, 0.65mm Pitch, Exposed Pad; RoHS: Y; PinCount: 20; DigiKeyPartNumber: LM5118MH-ND; Code_JEDEC: MO-153-ACT; ComponentLink1Description: LM5118 Datasheet; ComponentLink1URL: http://www.national.com/ds/LM/LM5118.pdf; ComponentLink2Description: LM5118 Web Page; ComponentLink2URL: http://www.national.com/pf/LM/LM5118.html; ComponentLink3Description: MXA20A Package Drawing; ComponentLink3URL: http://www.national.com/packaging/folders/mxa20a.html
footprint MXA20A_N (TSOP, 20-Leads, Body 6.5x4.4mm, Pitch 0.65mm, Exposed Pad, IPC Medium Density)
footprint MXA20A_L (TSOP, 20-Leads, Body 6.5x4.4mm, Pitch 0.65mm, Exposed Pad, IPC High Density)
footprint MXA20A_M (TSOP, 20-Leads, Body 6.5x4.4mm, Pitch 0.65mm, Exposed Pad, IPC Low Density)
pins: 1 VIN (power), 2 UVLO, 3 RT (in), 4 EN (in), 5 RAMP, 6 AGND (power), 7 SS (in), 8 FB (in), 9 COMP, 10 VOUT, 11 SYNC, 12 CS (in), 13 CSG (in), 14 PGND (power), 15 LO (out), 16 VCC (power), 17 VCCX (power), 18 HB, 19 HO (out), 20 HS (in)

## LM5574MT
designator U?
SIMPLE SWITCHER 75V, 0.5A Step-Down Switching Regulator; PartNumber: LM5574MT; Manufacturer: National Semiconductor; PackageTopMarking: NSUZXYTT*LM5574*MT; PowerWise: Y; Published: 4-Dec-2008; DatasheetVersion: Mar-2007; PackageVersion: revD, Jun-2003; PackageReference: MTC16; Publisher: Altium Limited; PackageDescription: Molded TSSOP, Jedec, 5 x 4.4 x 0.9mm Body, 16 Lead, 0.65mm Pitch; CompType: Switcher; RoHS: O; PinCount: 16; DigiKeyPartNumber: LM5574MT-ND; Code_JEDEC: MO-153-AB; ComponentLink1Description: LM5574 Datasheet; ComponentLink1URL: http://www.national.com/ds/LM/LM5574.pdf; ComponentLink2Description: LM5574 Web Page; ComponentLink2URL: http://www.national.com/pf/LM/LM5574.html; ComponentLink3Description: MTC16 Package Page; ComponentLink3URL: http://www.national.com/packaging/folders/mtc16.html
footprint MTC16_N (TSOP, 16-Leads, Body 5x4.4mm, Pitch 0.65mm, IPC Medium Density)
footprint MTC16_L (TSOP, 16-Leads, Body 5x4.4mm, Pitch 0.65mm, IPC High Density)
footprint MTC16_M (TSOP, 16-Leads, Body 5x4.4mm, Pitch 0.65mm, IPC Low Density)
pins: 1 VCC (power), 2 SD, 3 VIN (power), 4 SYNC, 5 COMP, 6 FB (in), 7 RT (in), 8 RAMP, 9 AGND (power), 10 SS (in), 11 OUT (power), 12 PGND (power), 13 IS (in), 14 SW (power), 15 PRE (oc), 16 BST

## LM5574QMT
designator U?
SIMPLE SWITCHER® 75V, 0.5A Step-Down Switching Regulator; PartNumber: LM5574QMT; Manufacturer: National Semiconductor; PackageTopMarking: NSUZXYTT*LM5574*QMT; PowerWise: N; Published: 29-May-2009; DatasheetVersion: Feb-2009; PackageVersion: revD, Jun-2003; PackageReference: MTC16; Publisher: Altium Limited; PackageDescription: Molded TSSOP, Jedec, 5 x 4.4 x 0.9mm Body, 16 Lead, 0.65mm Pitch; CompType: Switcher; RoHS: Y; PinCount: 16; Code_JEDEC: MO-153-AB; ComponentLink1Description: LM5574 Datasheet; ComponentLink1URL: http://www.national.com/ds/LM/LM5574.pdf; ComponentLink2Description: LM5574 Web Page; ComponentLink2URL: http://www.national.com/pf/LM/LM5574.html; ComponentLink3Description: MTC16 Package Page; ComponentLink3URL: http://www.national.com/packaging/folders/mtc16.html
footprint MTC16_N (TSOP, 16-Leads, Body 5x4.4mm, Pitch 0.65mm, IPC Medium Density)
footprint MTC16_L (TSOP, 16-Leads, Body 5x4.4mm, Pitch 0.65mm, IPC High Density)
footprint MTC16_M (TSOP, 16-Leads, Body 5x4.4mm, Pitch 0.65mm, IPC Low Density)
pins: 1 VCC (power), 2 SD, 3 VIN (power), 4 SYNC, 5 COMP, 6 FB (in), 7 RT (in), 8 RAMP, 9 AGND (power), 10 SS (in), 11 OUT (power), 12 PGND (power), 13 IS (in), 14 SW (power), 15 PRE (oc), 16 BST

## LM5575MH
designator U?
SIMPLE SWITCHER 75V, 1.5A Step-Down Switching Regulator; PartNumber: LM5575MH; Manufacturer: National Semiconductor; PackageTopMarking: NSUZXYTT*LM5575*MH; PowerWise: Y; Published: 4-Dec-2008; DatasheetVersion: Mar-2007; PackageVersion: revA, Apr-2003; PackageReference: MXA16A; Publisher: Altium Limited; PackageDescription: Molded TSSOP, Jedec, Exposed Pad, 5.0 x 4.4 x 0.9mm Body,16 Lead, 0.65mm Pitch; CompType: Switcher; RoHS: Y; PinCount: 16; DigiKeyPartNumber: LM5575MH-ND; Code_JEDEC: MO-153-ABT; ComponentLink1Description: LM5575 Datasheet; ComponentLink1URL: http://www.national.com/ds/LM/LM5575.pdf; ComponentLink2Description: LM5575 Web Page; ComponentLink2URL: http://www.national.com/pf/LM/LM5575.html; ComponentLink3Description: MXA16A Package Page; ComponentLink3URL: http://www.national.com/packaging/folders/mxa16a.html
footprint MXA16A_N (TSOP, 16-Leads, Body 5x4.4mm, Pitch 0.65mm, Exposed Pad, IPC Medium Density)
footprint MXA16A_L (TSOP, 16-Leads, Body 5x4.4mm, Pitch 0.65mm, Exposed Pad, IPC High Density)
footprint MXA16A_M (TSOP, 16-Leads, Body 5x4.4mm, Pitch 0.65mm, Exposed Pad, IPC Low Density)
pins: 1 VCC (power), 2 SD, 3 VIN (power), 4 SYNC, 5 COMP, 6 FB (in), 7 RT (in), 8 RAMP, 9 AGND (power), 10 SS (in), 11 OUT (power), 12 PGND (power), 13 IS (in), 14 SW (power), 15 PRE (oc), 16 BST, 17 DAP (power)

## LM5575QMH
designator U?
SIMPLE SWITCHER® 75V, 1.5A Step-Down Switching Regulator; PartNumber: LM5575QMH; Manufacturer: National Semiconductor; PackageTopMarking: NSUZXYTT*LM5575*QMH; PowerWise: N; Published: 29-May-2009; DatasheetVersion: Feb-2009; PackageVersion: revA, Apr-2003; PackageReference: MXA16A; Publisher: Altium Limited; PackageDescription: Molded TSSOP, Jedec, Exposed Pad, 5.0 x 4.4 x 0.9mm Body,16 Lead, 0.65mm Pitch; CompType: Switcher; RoHS: Y; PinCount: 16; Code_JEDEC: MO-153-ABT; ComponentLink1Description: LM5575 Datasheet; ComponentLink1URL: http://www.national.com/ds/LM/LM5575.pdf; ComponentLink2Description: LM5575 Web Page; ComponentLink2URL: http://www.national.com/pf/LM/LM5575.html; ComponentLink3Description: MXA16A Package Page; ComponentLink3URL: http://www.national.com/packaging/folders/mxa16a.html
footprint MXA16A_N (TSOP, 16-Leads, Body 5x4.4mm, Pitch 0.65mm, Exposed Pad, IPC Medium Density)
footprint MXA16A_L (TSOP, 16-Leads, Body 5x4.4mm, Pitch 0.65mm, Exposed Pad, IPC High Density)
footprint MXA16A_M (TSOP, 16-Leads, Body 5x4.4mm, Pitch 0.65mm, Exposed Pad, IPC Low Density)
pins: 1 VCC (power), 2 SD, 3 VIN (power), 4 SYNC, 5 COMP, 6 FB (in), 7 RT (in), 8 RAMP, 9 AGND (power), 10 SS (in), 11 OUT (power), 12 PGND (power), 13 IS (in), 14 SW (power), 15 PRE (oc), 16 BST, 17 DAP (power)

## LM5576MH
designator U?
SIMPLE SWITCHER 75V, 3A Step-Down Switching Regulator; PartNumber: LM5576MH; Manufacturer: National Semiconductor; PackageTopMarking: NSUZXYTT*LM5576*MH; PowerWise: Y; Published: 4-Dec-2008; DatasheetVersion: Mar-2007; PackageVersion: revC, Jul-2006; PackageReference: MXA20A; Publisher: Altium Limited; PackageDescription: Molded TSSOP, Jedec, 6.5 x 4.4 x 0.9mm Body, 20 Lead, 0.65mm Pitch, Exposed Pad; CompType: Switcher; RoHS: Y; PinCount: 20; DigiKeyPartNumber: LM5576MH-ND; Code_JEDEC: MO-153-ACT; ComponentLink1Description: LM5576 Datasheet; ComponentLink1URL: http://www.national.com/ds/LM/LM5576.pdf; ComponentLink2Description: LM5576 Web Page; ComponentLink2URL: http://www.national.com/pf/LM/LM5576.html; ComponentLink3Description: MXA20A Package Page; ComponentLink3URL: http://www.national.com/packaging/folders/mxa20a.html
footprint MXA20A_N (TSOP, 20-Leads, Body 6.5x4.4mm, Pitch 0.65mm, Exposed Pad, IPC Medium Density)
footprint MXA20A_L (TSOP, 20-Leads, Body 6.5x4.4mm, Pitch 0.65mm, Exposed Pad, IPC High Density)
footprint MXA20A_M (TSOP, 20-Leads, Body 6.5x4.4mm, Pitch 0.65mm, Exposed Pad, IPC Low Density)
pins: 1 VCC (power), 2 SD, 3 VIN (power), 4 VIN (power), 5 SYNC, 6 COMP, 7 FB (in), 8 RT (in), 9 RAMP, 10 AGND (power), 11 SS (in), 12 OUT (power), 13 PGND (power), 14 PGND (power), 15 IS (in), 16 IS (in), 17 SW (power), 18 SW (power), 19 PRE (oc), 20 BST, 21 DAP (power)

## LM5576QMH
designator U?
SIMPLE SWITCHER® 75V, 3A Step-Down Switching Regulator; PartNumber: LM5576QMH; Manufacturer: National Semiconductor; PackageTopMarking: NSUZXYTT*LM5576*QMH; PowerWise: N; Published: 29-May-2009; DatasheetVersion: Mar-2009; PackageVersion: revC, Jul-2006; PackageReference: MXA20A; Publisher: Altium Limited; PackageDescription: Molded TSSOP, Jedec, 6.5 x 4.4 x 0.9mm Body, 20 Lead, 0.65mm Pitch, Exposed Pad; CompType: Switcher; RoHS: Y; PinCount: 20; Code_JEDEC: MO-153-ACT; ComponentLink1Description: LM5576 Datasheet; ComponentLink1URL: http://www.national.com/ds/LM/LM5576.pdf; ComponentLink2Description: LM5576 Web Page; ComponentLink2URL: http://www.national.com/pf/LM/LM5576.html; ComponentLink3Description: MXA20A Package Page; ComponentLink3URL: http://www.national.com/packaging/folders/mxa20a.html
footprint MXA20A_N (TSOP, 20-Leads, Body 6.5x4.4mm, Pitch 0.65mm, Exposed Pad, IPC Medium Density)
footprint MXA20A_L (TSOP, 20-Leads, Body 6.5x4.4mm, Pitch 0.65mm, Exposed Pad, IPC High Density)
footprint MXA20A_M (TSOP, 20-Leads, Body 6.5x4.4mm, Pitch 0.65mm, Exposed Pad, IPC Low Density)
pins: 1 VCC (power), 2 SD, 3 VIN (power), 4 VIN (power), 5 SYNC, 6 COMP, 7 FB (in), 8 RT (in), 9 RAMP, 10 AGND (power), 11 SS (in), 12 OUT (power), 13 PGND (power), 14 PGND (power), 15 IS (in), 16 IS (in), 17 SW (power), 18 SW (power), 19 PRE (oc), 20 BST, 21 DAP (power)

## LM5642MH
designator U?
High Voltage, Dual Synchronous Buck Converter with Oscillator Synchronization; PartNumber: LM5642MH; Manufacturer: National Semiconductor; CompType: Switcher; PackageTopMarking: NSUZXYTT*LM5642*MH; PowerWise: N; Published: 4-Dec-2008; DatasheetVersion: Jun-2007; PackageVersion: revD, Oct-2003; PackageReference: MXA28A; Publisher: Altium Limited; PackageDescription: Molded TSSOP, Jedec, 9.7 x 4.4 x 0.9mm Body, 28 Lead, 0.65mm Pitch, Exposed Pad; RoHS: Y; PinCount: 28; DigiKeyPartNumber: LM5642MH-ND; Code_JEDEC: MO-153-AET; ComponentLink1Description: LM5642 Datasheet; ComponentLink1URL: http://www.national.com/ds/LM/LM5642.pdf; ComponentLink2Description: LM5642 Web Page; ComponentLink2URL: http://www.national.com/pf/LM/LM5642.html; ComponentLink3Description: MXA28A Package Drawing; ComponentLink3URL: http://www.national.com/packaging/folders/mxa28a.html
footprint MXA28A_N (TSOP, 28-Leads, Body 9.7x4.4mm, Pitch 0.65mm, Exposed Pad, IPC Medium Density)
footprint MXA28A_L (TSOP, 28-Leads, Body 9.7x4.4mm, Pitch 0.65mm, Exposed Pad, IPC High Density)
footprint MXA28A_M (TSOP, 28-Leads, Body 9.7x4.4mm, Pitch 0.65mm, Exposed Pad, IPC Low Density)
pins: 1 KS1, 2 ILIM1, 3 COMP1, 4 FB1 (in), 5 SYNC, 6 UVDELAY, 7 VLIN5 (power), 8 SGND (power), 9 ON/SS1 (in), 10 ON/SS2 (in), 11 FB2 (in), 12 COMP2, 13 ILIM2, 14 KS2, 15 RSNS2, 16 SW2 (power), 17 HDRV2 (out), 18 CBOOT2, 19 VDD2 (power), 20 LDRV2 (out), 21 PGND (power), 22 VIN (power), 23 LDRV1 (out), 24 VDD1 (power), 25 CBOOT1, 26 HDRV1 (out), 27 SW1 (power), 28 RSNS1, 29 DAP (power)

## LM5642MTC
designator U?
High Voltage, Dual Synchronous Buck Converter with Oscillator Synchronization; PartNumber: LM5642MTC; Manufacturer: National Semiconductor; CompType: Switcher; PackageTopMarking: NSUZXYTT*LM5642*MTC; PowerWise: Y; Published: 4-Dec-2008; DatasheetVersion: Jun-2007; PackageVersion: revD, Jan-2005; PackageReference: MTC28; Publisher: Altium Limited; PackageDescription: Molded TSSOP, Jedec, 9.7 x 4.4 x 0.9mm Body, 28 Lead, 0.65mm Pitch; RoHS: O; PinCount: 28; DigiKeyPartNumber: LM5642MTC-ND; Code_JEDEC: MO-153-AE; ComponentLink1Description: LM5642 Datasheet; ComponentLink1URL: http://www.national.com/ds/LM/LM5642.pdf; ComponentLink2Description: LM5642 Web Page; ComponentLink2URL: http://www.national.com/pf/LM/LM5642.html; ComponentLink3Description: MTC28 Package Drawing; ComponentLink3URL: http://www.national.com/packaging/folders/mtc28.html
footprint MTC28_N (TSOP, 28-Leads, Body 9.7x4.4mm, Pitch 0.65mm, IPC Medium Density)
footprint MTC28_L (TSOP, 28-Leads, Body 9.7x4.4mm, Pitch 0.65mm, IPC High Density)
footprint MTC28_M (TSOP, 28-Leads, Body 9.7x4.4mm, Pitch 0.65mm, IPC Low Density)
pins: 1 KS1, 2 ILIM1, 3 COMP1, 4 FB1 (in), 5 SYNC, 6 UVDELAY, 7 VLIN5 (power), 8 SGND (power), 9 ON/SS1 (in), 10 ON/SS2 (in), 11 FB2 (in), 12 COMP2, 13 ILIM2, 14 KS2, 15 RSNS2, 16 SW2 (power), 17 HDRV2 (out), 18 CBOOT2, 19 VDD2 (power), 20 LDRV2 (out), 21 PGND (power), 22 VIN (power), 23 LDRV1 (out), 24 VDD1 (power), 25 CBOOT1, 26 HDRV1 (out), 27 SW1 (power), 28 RSNS1

## LM5642XMH
designator U?
High Voltage, Dual Synchronous Buck Converter with Oscillator Synchronization; PartNumber: LM5642XMH; Manufacturer: National Semiconductor; CompType: Switcher; PackageTopMarking: NSUZXYTT*LM5642*XMH; PowerWise: Y; Published: 4-Dec-2008; DatasheetVersion: Jun-2007; PackageVersion: revD, Oct-2003; PackageReference: MXA28A; Publisher: Altium Limited; PackageDescription: Molded TSSOP, Jedec, 9.7 x 4.4 x 0.9mm Body, 28 Lead, 0.65mm Pitch, Exposed Pad; RoHS: Y; PinCount: 28; DigiKeyPartNumber: LM5642XMH-ND; Code_JEDEC: MO-153-AET; ComponentLink1Description: LM5642X Datasheet; ComponentLink1URL: http://www.national.com/ds/LM/LM5642X.pdf; ComponentLink2Description: LM5642X Web Page; ComponentLink2URL: http://www.national.com/pf/LM/LM5642X.html; ComponentLink3Description: MXA28A Package Drawing; ComponentLink3URL: http://www.national.com/packaging/folders/mxa28a.html
footprint MXA28A_N (TSOP, 28-Leads, Body 9.7x4.4mm, Pitch 0.65mm, Exposed Pad, IPC Medium Density)
footprint MXA28A_L (TSOP, 28-Leads, Body 9.7x4.4mm, Pitch 0.65mm, Exposed Pad, IPC High Density)
footprint MXA28A_M (TSOP, 28-Leads, Body 9.7x4.4mm, Pitch 0.65mm, Exposed Pad, IPC Low Density)
pins: 1 KS1, 2 ILIM1, 3 COMP1, 4 FB1 (in), 5 SYNC, 6 UVDELAY, 7 VLIN5 (power), 8 SGND (power), 9 ON/SS1 (in), 10 ON/SS2 (in), 11 FB2 (in), 12 COMP2, 13 ILIM2, 14 KS2, 15 RSNS2, 16 SW2 (power), 17 HDRV2 (out), 18 CBOOT2, 19 VDD2 (power), 20 LDRV2 (out), 21 PGND (power), 22 VIN (power), 23 LDRV1 (out), 24 VDD1 (power), 25 CBOOT1, 26 HDRV1 (out), 27 SW1 (power), 28 RSNS1, 29 DAP (power)